# Altium footprint library 2440PCBV5_20140403.PcbLib: 166 footprints (part 5 of 11)
Each footprint in its own frame and in the unit in brackets; x right, y up, seen from the top. Pads: shape width x height; smd on the part's side, far side on the other; paste and mask are expansions set on the pad; w line width, h text height; cw(c..) or ccw(c..) is an arc to the next point about the centre after c.
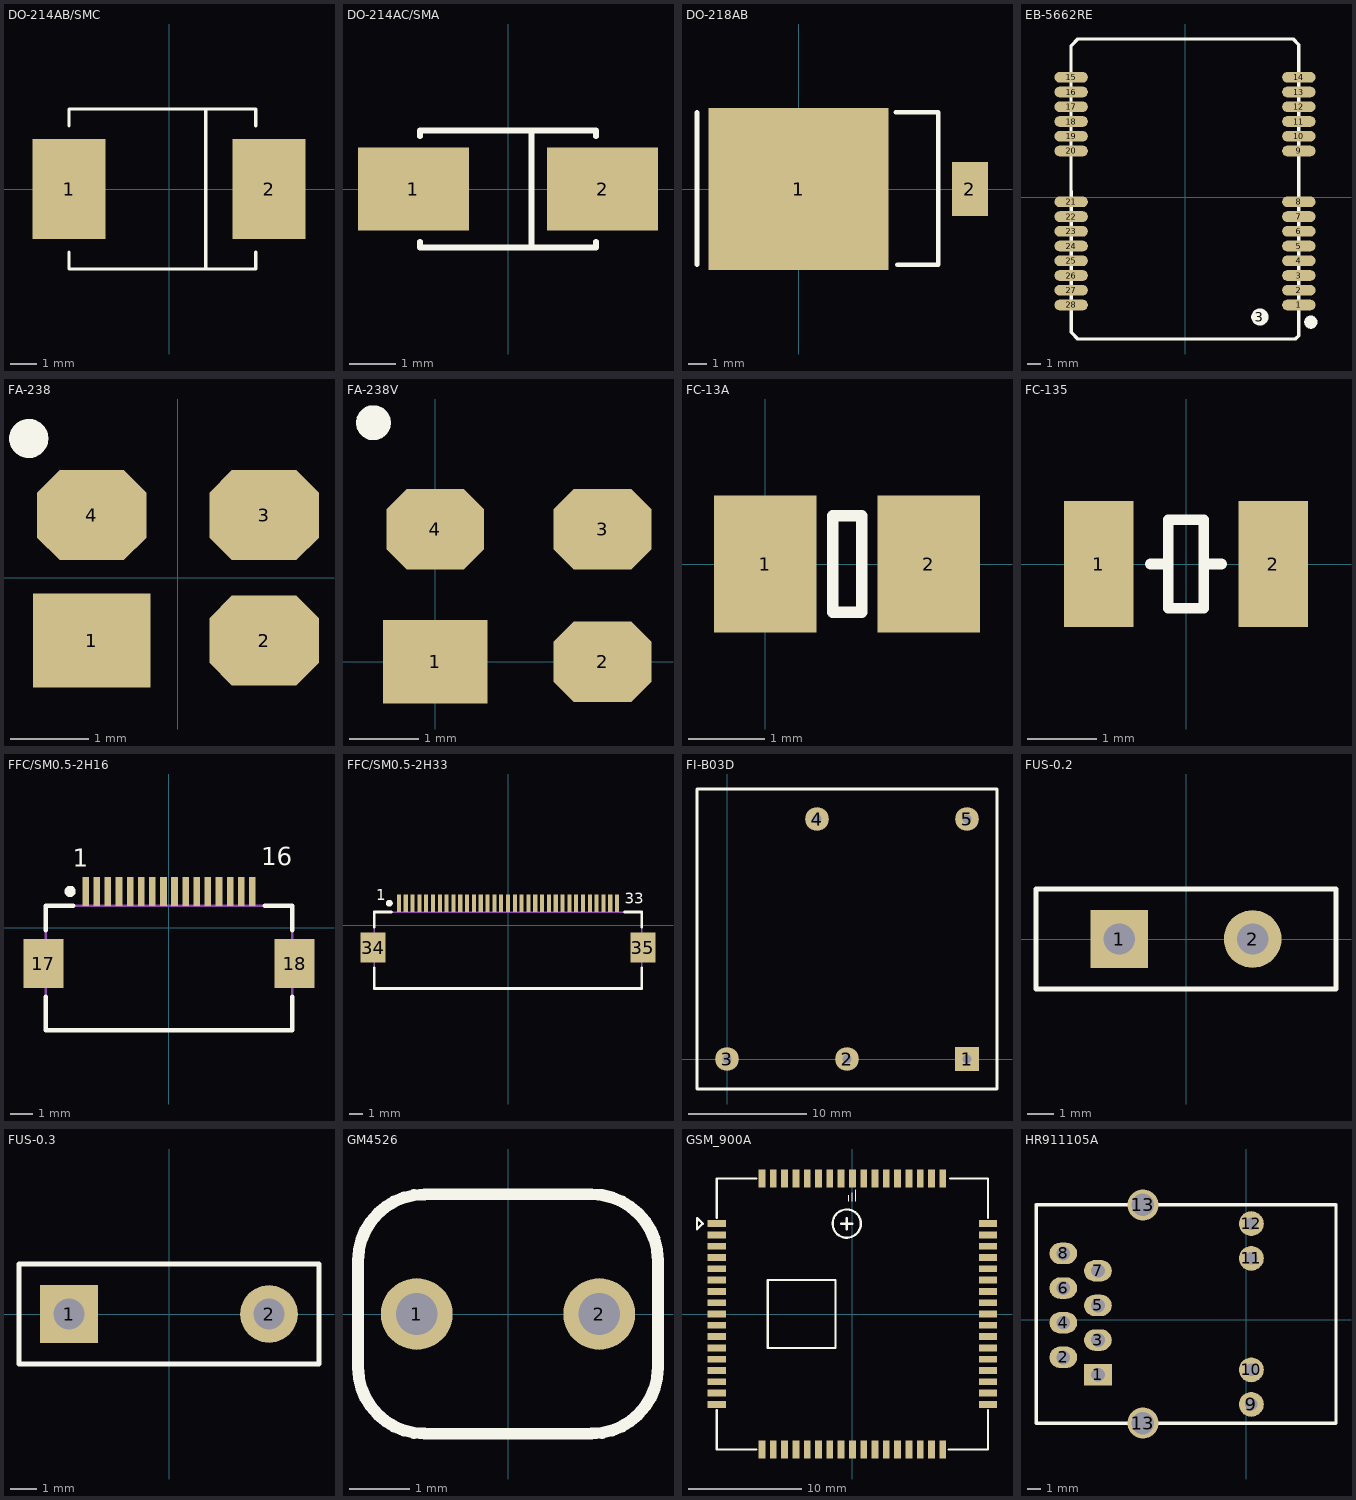
[diagram p4: the footprints below, top view; thin cyan lines are the x and y axes]

## DO-214AB/SMC [mil] "DO-214-AB/SMC; 2 C-Bend Leads; Body 7.9 x 5.9 mm, inc. leads (LxW)"
height 101.18
pads (2):
  rect 110x150 smd: 1(-150,0) 2(150,0)
Top Overlay:
  lines w5: -150,-95 -150,-120 130,-120 130,-95 ; -150,95 -150,120 130,120 130,95 ; 55,-120 55,120
Mechanical 15:
  lines w1: -150,-120 130,-120 ; -150,120 130,120
3D body: height 50, standoff -54, extent -170.01,-124.01 149.99,123.99

## DO-214AC/SMA [mm] "DO-214-AC/SMA; 2 C-Bend Leads; Body 5 x 2.7 mm, inc. leads (LxW)"
height 2.44
pads (2):
  rect 2.4x1.8 smd: 1(-2.05,0) 2(2.05,0)
Top Overlay:
  lines w0.127: -1.905,-1.143 -1.905,-1.27 1.905,-1.27 1.905,-1.143 ; -1.905,1.143 -1.905,1.27 1.905,1.27 1.905,1.143 ; 0.508,-1.27 0.508,1.27
3D body: height 2.38, standoff -0.03, extent -2.6,-1.3 2.6,1.3

## DO-218AB [mm]
pads (2):
  rect 10x9 smd: 1(0,0)
  rect 2x3 smd: 2(9.5,0)
Top Overlay:
  lines w0.254: -5.626,-4.191 -5.626,4.25 ; 5.393,4.25 7.747,4.25 7.747,-4.191 5.461,-4.191

## EB-5662RE [mm]
pads (30):
  oval 2.5x0.8 smd: 1(8.5,-8.051) 2(8.5,-6.951) 3(8.5,-5.851) 4(8.5,-4.751) 5(8.5,-3.651) 6(8.5,-2.551) 7(8.5,-1.451) 8(8.5,-0.351) 9(8.5,3.449) 10(8.5,4.549) 11(8.5,5.649) 12(8.5,6.749) 13(8.5,7.849) 14(8.5,8.949) 15(-8.5,8.949) 16(-8.5,7.849) 17(-8.5,6.749) 18(-8.5,5.649) 19(-8.5,4.549) 20(-8.5,3.449) 21(-8.5,-0.351) 22(-8.5,-1.451) 23(-8.5,-2.551) 24(-8.5,-3.651) 25(-8.5,-4.751) 26(-8.5,-5.851) 27(-8.5,-6.951) 28(-8.5,-8.051)
  round 1.3 on Top Overlay: 3(5.588,-8.949)
  round 1 on Top Overlay: ""(9.398,-9.33)
Top Overlay:
  lines w0.254: -8.509,10.922 -8.509,11.303 -8.003,11.809 -7.62,11.809 7.992,11.809 8.071,11.809 8.5,11.38 8.5,-10.337 8.246,-10.591 -8.01,-10.591 -8.5,-10.101 -8.5,-9.906 -8.509,10.922

## FA-238 [mm] "Quartz Crystal, SM; Body 3.4 x 2.7 mm (LxW max)"
height 1
pads (4):
  rect 1.5x1.2 smd: 1(-1.1,-0.8)
  oct 1.4x1.15 smd: 2(1.1,-0.8) 3(1.1,0.8) 4(-1.1,0.8)
Top Overlay:
  circle w0.25: c-1.903,1.778 r0.125

## FA-238V [mm] "Quartz Crystal, SM; Body 3.4 x 2.7 mm (LxW max)"
height 1
pads (4):
  rect 1.5x1.2 smd: 1(0,0)
  oct 1.4x1.15 smd: 2(2.4,0) 3(2.4,1.9) 4(0,1.9)
Top Overlay:
  circle w0.25: c-0.887,3.429 r0.125

## FC-13A [mm] "Quartz Crystal, SM; 2 Leads; Body 3.5 x 1.5 x 0.9mm (LxWxH)"
height 1
pads (2):
  rect 1.35x1.8 smd: 1(0,0) 2(2.15,0)
Top Overlay:
  lines w0.152: 0.889,-0.635 1.27,-0.635 1.27,0.635 0.889,0.635 0.889,-0.635

## FC-135 [mm] "Quartz Crystal, SM; 2 Leads; Body 3.5 x 1.5 x 0.8mm (LxWxH)"
height 0.8
pads (2):
  rect 1x1.8 smd: 1(-1.25,0) 2(1.25,0)
Top Overlay:
  lines w0.152: -0.508,0 -0.254,0 ; 0.254,0 0.508,0 ; -0.254,-0.635 -0.254,0.635 0.254,0.635 0.254,-0.635 -0.254,-0.635

## FFC/SM0.5-2H16 [mm]
height 2
pads (18):
  rect 0.3x1.3 smd: 1(-3.75,1.625) 2(-3.25,1.625) 3(-2.75,1.625) 4(-2.25,1.625) 5(-1.75,1.625) 6(-1.25,1.625) 7(-0.75,1.625) 8(-0.25,1.625) 9(0.25,1.625) 10(0.75,1.625) 11(1.25,1.625) 12(1.75,1.625) 13(2.25,1.625) 14(2.75,1.625) 15(3.25,1.625) 16(3.75,1.625)
  rect 1.8x2.2 smd: 17(-5.65,-1.625) 18(5.65,-1.625)
Top Overlay:
  circle w0.25: c-4.45,1.625 r0.125
  lines w0.2: -5.55,-3.125 -5.55,-4.625 5.55,-4.625 5.55,-3.125 ; -5.55,-0.125 -5.55,0.975 -4.3,0.975 ; 4.3,0.975 5.55,0.975 5.55,-0.125
  text "1" at -4.329,2.739 h0.8
  text "16" at 4.154,2.79 h0.8
Mechanical 13:
  lines w0.1: -5.55,-4.625 5.55,-4.625 5.55,0.975 -5.55,0.975 -5.55,-4.625
3D body: height 2, standoff 0, extent -5.55,-4.625 5.55,0.975

## FFC/SM0.5-2H33 [mm]
height 2
pads (35):
  rect 0.3x1.3 smd: 1(-8,1.625) 2(-7.5,1.625) 3(-7,1.625) 4(-6.5,1.625) 5(-6,1.625) 6(-5.5,1.625) 7(-5,1.625) 8(-4.5,1.625) 9(-4,1.625) 10(-3.5,1.625) 11(-3,1.625) 12(-2.5,1.625) 13(-2,1.625) 14(-1.5,1.625) 15(-1,1.625) 16(-0.5,1.625) 17(0,1.625) 18(0.5,1.625) 19(1,1.625) 20(1.5,1.625) 21(2,1.625) 22(2.5,1.625) 23(3,1.625) 24(3.5,1.625) 25(4,1.625) 26(4.5,1.625) 27(5,1.625) 28(5.5,1.625) 29(6,1.625) 30(6.5,1.625) 31(7,1.625) 32(7.5,1.625) 33(8,1.625)
  rect 1.8x2.2 smd: 34(-9.9,-1.625) 35(9.9,-1.625)
Top Overlay:
  circle w0.25: c-8.7,1.625 r0.125
  lines w0.2: -9.8,-3.125 -9.8,-4.625 9.8,-4.625 9.8,-3.125 ; -9.8,-0.125 -9.8,0.975 -8.55,0.975 ; 8.55,0.975 9.8,0.975 9.8,-0.125
  text "1" at -9.643,1.825 h0.8
  text "33" at 8.568,1.571 h0.8
Mechanical 13:
  lines w0.1: -9.8,-4.625 9.8,-4.625 9.8,0.975 -9.8,0.975 -9.8,-4.625
3D body: height 2, standoff 0, extent -9.8,-4.625 9.8,0.975

## FI-B03D [mm]
height 0.305
pads (5):
  rect 2x2 hole 0.762: 1(20.32,0)
  round 2 hole 0.762: 2(10.16,0) 3(0,0) 4(7.62,20.32) 5(20.32,20.32)
Top Overlay:
  lines w0.254: -2.54,-2.54 -2.54,22.86 22.86,22.86 22.86,-2.54 -2.54,-2.54

## FUS-0.2 [mm]
pads (2):
  rect 2.2x2.2 hole 1.2: 1(-2.54,0)
  round 2.2 hole 1.2: 2(2.54,0)
Top Overlay:
  lines w0.2: -5.715,-1.905 -5.715,1.905 5.715,1.905 5.715,-1.905 -5.715,-1.905

## FUS-0.3 [mm]
pads (2):
  rect 2.2x2.2 hole 1.2: 1(-3.81,0)
  round 2.2 hole 1.2: 2(3.81,0)
Top Overlay:
  lines w0.2: -5.715,-1.905 5.715,-1.905 5.715,1.905 -5.715,1.905 -5.715,-1.905

## GM4526 [mm]
pads (2):
  round 1.2 hole 0.7: 1(-1.524,0) 2(1.524,0)
Top Overlay:
  lines w0.2: -1.397,-2 1.397,-2 ; -1.397,-1.997 cw(c-1.397,-0.889) -2.505,-0.889 -2.505,0.889 cw(c-1.397,0.889) -1.397,1.997 ; -1.397,2 1.397,2 cw(c1.397,0.892) 2.505,0.892 2.505,-0.889 cw(c1.397,-0.889) 1.397,-1.997

## GSM_900A [mm]
pads (68):
  rect 1.6x0.6 smd: 1(-12,8) 2(-12,7) 3(-12,6) 4(-12,5) 5(-12,4) 6(-12,3) 7(-12,2) 8(-12,1) 9(-12,0) 10(-12,-1) 11(-12,-2) 12(-12,-3) 13(-12,-4) 14(-12,-5) 15(-12,-6) 16(-12,-7) 17(-12,-8) 35(12,-8) 36(12,-7) 37(12,-6) 38(12,-5) 39(12,-4) 40(12,-3) 41(12,-2) 42(12,-1) 43(12,0) 44(12,1) 45(12,2) 46(12,3) 47(12,4) 48(12,5) 49(12,6) 50(12,7) 51(12,8)
  rect 0.6x1.6 smd: 18(-8,-12) 19(-7,-12) 20(-6,-12) 21(-5,-12) 22(-4,-12) 23(-3,-12) 24(-2,-12) 25(-1,-12) 26(0,-12) 27(1,-12) 28(2,-12) 29(3,-12) 30(4,-12) 31(5,-12) 32(6,-12) 33(7,-12) 34(8,-12) 52(8,12) 53(7,12) 54(6,12) 55(5,12) 56(4,12) 57(3,12) 58(2,12) 59(1,12) 60(0,12) 61(-1,12) 62(-2,12) 63(-3,12) 64(-4,12) 65(-5,12) 66(-6,12) 67(-7,12) 68(-8,12)
Top Overlay:
  circle w0.203: c-0.5,8 r1.25
  lines w0.1: -0.3,10 -0.3,10.5 ; 0,10 0,10.75 ; 0.3,10 0.3,11 ; -13.75,7.5 -13.75,8.5 -13.25,8 -13.75,7.5
  lines w0.203: -12,-8.51 -12,-12 -8.505,-12 ; -12,8.508 -12,12 -8.507,12 ; -1,8 0,8 ; -0.5,7.5 -0.5,8.5 ; 8.508,-12 12,-12 12,-8.513 ; 8.637,12 12,12 12,8.511 ; -13.75,7.5 -13.25,8 -13.75,8.5 -13.75,7.5 ; -7.5,-3 -7.5,3 -1.5,3 -1.5,-3 -7.5,-3

## HR911105A [mil] "HR911105A"
pads (14):
  rect 80x62 hole 40: 1(-429,-159)
  oval 80x62 hole 40: 2(-529,-109) 3(-429,-59) 4(-529,-9) 5(-429,41) 6(-529,91) 7(-429,141) 8(-529,191)
  round 72 hole 36: 9(13.91,-244.63) 10(13.91,-145) 11(13.91,176.87) 12(13.91,277)
  round 90 hole 65: 13(-299.08,-298.76) 13(-299.08,331.16)
Top Overlay:
  lines w10: -607.74,-299 -607.5,-298.76 ; -607.74,331 -607.58,331.16 ; -607.58,331.16 -607.58,-298.69 -607.5,-298.76 ; -607.58,331.16 -299.08,331.16 258.24,331.16 258.4,331 258.4,-299 258.17,-298.76 -299.08,-298.76 -607.5,-298.76
Multi-Layer:
  circle w5: c-169,241 r70.8
  circle w5: c-169,-209 r70.8